# EAGLE library part TS3A44159 (library packages(ti))
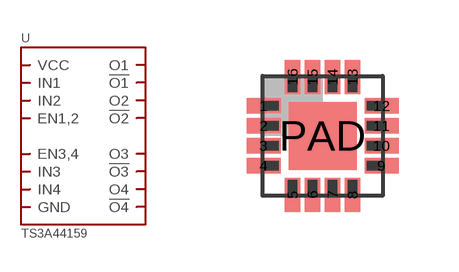
[diagram p25: symbol with the pads of RGT.16; footprint RGT.16]

Designator prefix U

## TS3A44159.RGT  [RGT.16]
1  O1
2  EN1,2
3  !O2
4  IN2
5  O2
6  GND
7  !O3
8  IN3
9  O3
10  EN3,4
11  !O4
12  IN4
13  O4
14  VCC
15  !O1
16  IN1
PAD  GND

## Footprint RGT.16 (pad centres in mm)
smd 0.85 x 0.38: 1 -1.475,0.75; 2 -1.475,0.25; 3 -1.475,-0.25; 4 -1.475,-0.75; 9 1.475,-0.75; 10 1.475,-0.25; 11 1.475,0.25; 12 1.475,0.75
smd 0.38 x 0.85: 5 -0.75,-1.475; 6 -0.25,-1.475; 7 0.25,-1.475; 8 0.75,-1.475; 13 0.75,1.475; 14 0.25,1.475; 15 -0.25,1.475; 16 -0.75,1.475
smd 1.7 x 1.7: PAD 0,0